# Altium footprint library PcbLib1.PcbLib: 10 footprints
Each footprint in its own frame and in the unit in brackets; x right, y up, seen from the top. Pads: shape width x height; smd on the part's side, far side on the other; paste and mask are expansions set on the pad; w line width, h text height; cw(c..) or ccw(c..) is an arc to the next point about the centre after c.
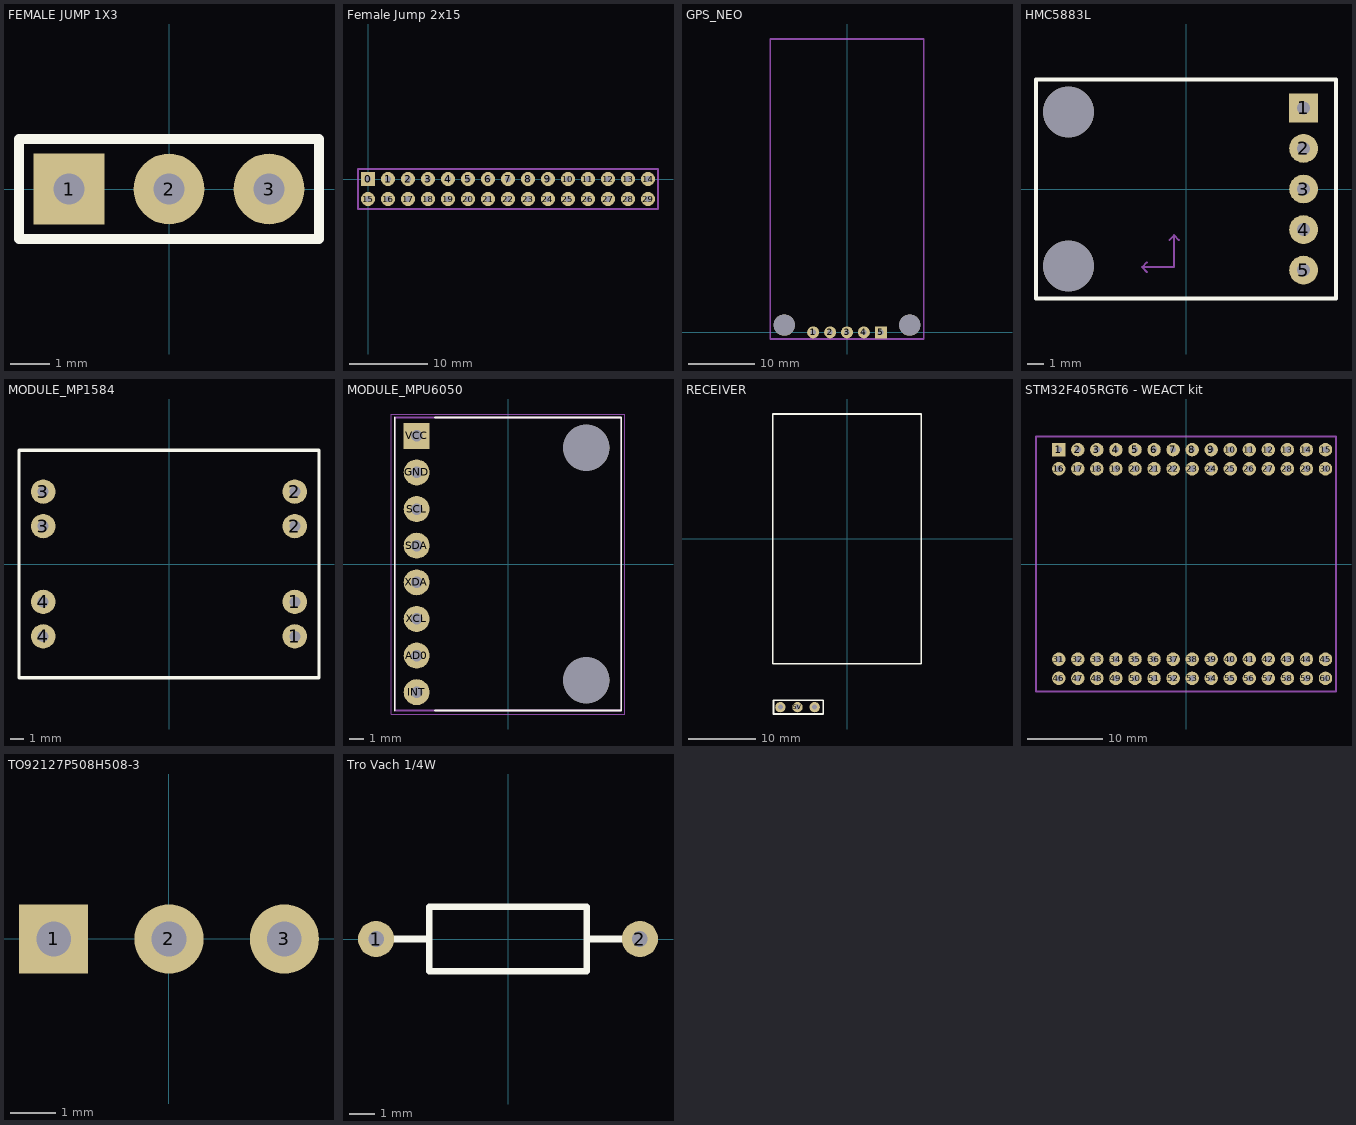
[diagram p0: the footprints below, top view; thin cyan lines are the x and y axes]

## FEMALE JUMP 1X3 [mm]
pads (3):
  rect 1.8x1.8 hole 0.8: 1(-2.54,0)
  round 1.8 hole 0.8: 2(0,0) 3(2.54,0)
Top Overlay:
  lines w0.254: -3.81,-1.27 3.81,-1.27 3.81,1.27 -3.81,1.27 -3.81,-1.27

## Female Jump 2x15 [mm] "2.54mm"
pads (30):
  rect 1.8x1.8 hole 0.8: 0(0,0)
  round 1.8 hole 0.8: 1(2.54,0) 2(5.08,0) 3(7.62,0) 4(10.16,0) 5(12.7,0) 6(15.24,0) 7(17.78,0) 8(20.32,0) 9(22.86,0) 10(25.4,0) 11(27.94,0) 12(30.48,0) 13(33.02,0) 14(35.56,0) 15(0,-2.54) 16(2.54,-2.54) 17(5.08,-2.54) 18(7.62,-2.54) 19(10.16,-2.54) 20(12.7,-2.54) 21(15.24,-2.54) 22(17.78,-2.54) 23(20.32,-2.54) 24(22.86,-2.54) 25(25.4,-2.54) 26(27.94,-2.54) 27(30.48,-2.54) 28(33.02,-2.54) 29(35.56,-2.54)
Mechanical 1:
  lines w0.254: -1.27,-3.81 36.83,-3.81 36.83,1.27 -1.27,1.27 -1.27,-3.81

## GPS_NEO [mm]
height 12.3
pads (7):
  round 1.8 hole 0.8: 1(-5.08,0) 2(-2.54,0) 3(0,0) 4(2.54,0)
  rect 1.8x1.8 hole 0.8: 5(5.08,0)
  round 3.2 hole 3.2 unplated mask+0: ""(-9.4,1.09) ""(9.4,1.09)
Mechanical 1:
  lines w0.254: -11.5,-1 -11.5,44 11.5,44 11.5,-1 -11.5,-1

## HMC5883L [mm]
pads (7):
  rect 1.8x1.8 hole 0.8: 1(7.366,5.08)
  round 1.8 hole 0.8: 2(7.366,2.54) 3(7.366,0) 4(7.366,-2.54) 5(7.366,-5.08)
  round 3.175 hole 3.175 unplated: ""(-7.366,-4.826) ""(-7.366,4.826)
Top Overlay:
  lines w0.254: -9.398,-6.858 9.398,-6.858 9.398,6.858 -9.398,6.858 -9.398,-6.858
Mechanical 13:
  region: 7.62,-5.334 7.112,-5.334 7.112,-4.826 7.62,-4.826
  region: 7.63,-2.79 7.116,-2.79 7.116,-2.296 7.63,-2.296
  region: 7.625,-0.25 7.116,-0.25 7.116,0.249 7.625,0.249
  region: 7.623,2.291 7.117,2.291 7.117,2.791 7.623,2.791
  region: 7.621,4.833 7.119,4.833 7.119,5.333 7.621,5.333
  lines w0.127: -2.446,-5.198 -2.746,-4.898 ; -2.446,-4.598 -2.746,-4.898 ; -1.046,-3.198 -0.746,-2.898 ; -0.446,-3.198 -0.746,-2.898 ; -2.746,-4.898 -0.746,-4.898 -0.746,-2.898
  text "VCC" at 5.978,5.091 h1.02
  text "Magnetometer" at -8.185,0.191 h0.81
  text "Z" at -0.146,-5.506 h0.81
  text "Y" at -3.346,-4.898 h0.81
  text "X" at -0.746,-2.299 h0.81
  text "GND" at 5.977,2.547 h1.02
  text "SCL" at 5.978,0.003 h1.02
  text "SDA" at 5.977,-2.54 h1.02
  text "DRDY" at 5.978,-5.084 h1.02
  text "HMC5883L" at -8.18,1.715 h1.27
3D body "step_temp.STEP": height 0.9, standoff 0, extent -1.5,-1.5 1.5,1.5

## MODULE_MP1584 [mm]
pads (8):
  round 1.8 hole 0.8: 1(9.271,-5.334) 1(9.271,-2.794) 2(9.271,2.794) 2(9.271,5.334) 3(-9.271,2.794) 3(-9.271,5.334) 4(-9.271,-5.334) 4(-9.271,-2.794)
Top Overlay:
  lines w0.254: -11.049,-8.382 11.049,-8.382 11.049,8.382 -11.049,8.382 -11.049,-8.382

## MODULE_MPU6050 [mm]
height 3
pads (10):
  round 1.8 hole 0.8 mask+0.102: AD0(-6.33,-6.35) GND(-6.33,6.35) INT(-6.33,-8.89) SCL(-6.33,3.81) SDA(-6.33,1.27) XCL(-6.33,-3.81) XDA(-6.33,-1.27)
  rect 1.8x1.8 hole 0.8 mask+0.102: VCC(-6.33,8.89)
  round 3.2 hole 3.2 unplated mask+0: ""(5.43,-8.06) ""(5.43,8.06)
Top Overlay:
  lines w0.127: -7.85,-10.15 -7.85,10.15 ; -5.058,-10.15 7.85,-10.15 7.85,10.15 -5.058,10.15
Mechanical 13:
  lines w0.127: -7.85,-10.15 7.85,-10.15 7.85,10.15 -7.85,10.15 -7.85,-10.15
Mechanical 15:
  lines w0.05: -8.1,-10.4 -8.1,10.4 8.1,10.4 8.1,-10.4 -8.1,-10.4
3D body "step_temp.STEP": height 3, standoff 0, extent -7.85,-10.15 7.85,10.15

## RECEIVER [mil]
pads (4):
  round 60 hole 30: 5V(-288.58,-981.18) GND(-188.58,-981.18) SBUS(-388.58,-981.18) SBUS(-388.58,-981.18)
Top Overlay:
  lines w10: -433.07,-728.35 433.07,-728.35 433.07,728.35 -433.07,728.35 -433.07,-728.35 ; -428.58,-1021.18 -428.58,-1011.18 -428.58,-941.18 -138.58,-941.18 -138.58,-1021.18 -428.58,-1021.18

## STM32F405RGT6 - WEACT kit [mm]
height 20
pads (61):
  rect 1.8x1.8 hole 0.8: 1(-16.96,15.24)
  round 1.8 hole 0.8: 2(-14.42,15.24) 3(-11.88,15.24) 4(-9.34,15.24) 5(-6.8,15.24) 6(-4.26,15.24) 7(-1.72,15.24) 8(0.82,15.24) 9(3.36,15.24) 10(5.9,15.24) 11(8.44,15.24) 12(10.98,15.24) 13(13.52,15.24) 14(16.06,15.24) 15(18.6,15.24) 16(-16.96,12.7) 16(-16.96,12.7) 17(-14.42,12.7) 18(-11.88,12.7) 19(-9.34,12.7) 20(-6.8,12.7) 21(-4.26,12.7) 22(-1.72,12.7) 23(0.82,12.7) 24(3.36,12.7) 25(5.9,12.7) 26(8.44,12.7) 27(10.98,12.7) 28(13.52,12.7) 29(16.06,12.7) 30(18.6,12.7) 31(-16.96,-12.7) 32(-14.42,-12.7) 33(-11.88,-12.7) 34(-9.34,-12.7) 35(-6.8,-12.7) 36(-4.26,-12.7) 37(-1.72,-12.7) 38(0.82,-12.7) 39(3.36,-12.7) 40(5.9,-12.7) 41(8.44,-12.7) 42(10.98,-12.7) 43(13.52,-12.7) 44(16.06,-12.7) 45(18.6,-12.7) 46(-16.96,-15.24) 47(-14.42,-15.24) 48(-11.88,-15.24) 49(-9.34,-15.24) 50(-6.8,-15.24) 51(-4.26,-15.24) 52(-1.72,-15.24) 53(0.82,-15.24) 54(3.36,-15.24) 55(5.9,-15.24) 56(8.44,-15.24) 57(10.98,-15.24) 58(13.52,-15.24) 59(16.06,-15.24) 60(18.6,-15.24)
Mechanical 1:
  lines w0.254: -20,-17 -20,17 20,17 20,-17 -20,-17

## TO92127P508H508-3 [mil]
height 200
pads (3):
  rect 60x60 hole 30: 1(-100,0)
  round 60 hole 30: 2(0,0) 3(100,0)
3D body "step_temp.STEP": height 200, standoff -500, extent -92.49,-72.5 92.49,72.5

## Tro Vach 1/4W [mm]
pads (2):
  round 1.4 hole 0.6: 1(-5.1,0) 2(5.1,0)
Top Overlay:
  lines w0.254: -4.394,0 -3.073,0 ; 3.099,0 4.42,0 ; -3.048,-1.25 3.048,-1.25 3.048,1.25 -3.048,1.25 -3.048,-1.25
3D body "Resistor 0.25W-1.step": height 2.41, standoff -2, extent -5.38,-1.2 5.38,1.2